# EAGLE library part TPS62730 (library texas)
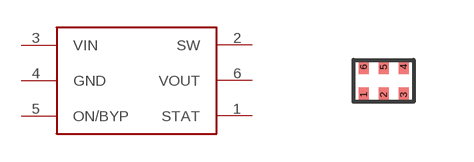
[diagram p125: symbol with the pads of TPS62730; footprint TPS62730]

Designator prefix -

## TPS62730  [TPS62730]
1  STAT
2  SW
3  VIN
4  GND
5  ON/BYP
6  VOUT

## Footprint TPS62730 (pad centres in mm)
smd 0.25 x 0.35: 1 -0.5,-0.35; 2 0,-0.35; 3 0.5,-0.35; 4 0.5,0.35; 5 0,0.35; 6 -0.5,0.35